# Altium footprint library B3U.PcbLib: 4 footprints
Each footprint in its own frame and in the unit in brackets; x right, y up, seen from the top. Pads: shape width x height; smd on the part's side, far side on the other; paste and mask are expansions set on the pad; w line width, h text height; cw(c..) or ccw(c..) is an arc to the next point about the centre after c.
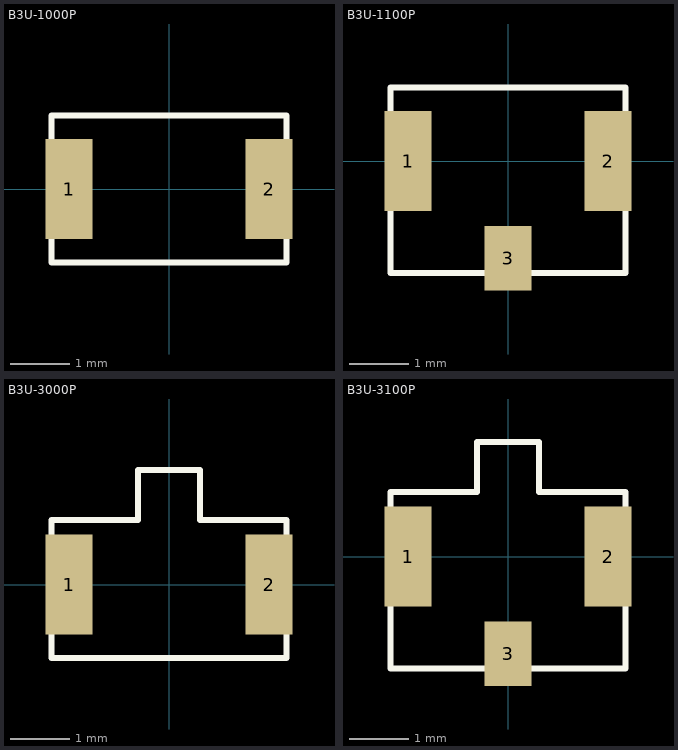
[diagram p0: the footprints below, top view; thin cyan lines are the x and y axes]

## B3U-1000P [mm] "Vertical No earth, No boss"
pads (2):
  rect 0.8x1.7 smd: 1(-1.7,0) 2(1.7,0)
Top Overlay:
  lines w0.1: -2,-1.25 2,-1.25 2,1.25 -2,1.25 -2,-1.25
3D body "B3U_1000P[].step": height 1.6, standoff 0, extent -2,-1.25 2,1.25

## B3U-1100P [mm] "Vertical With earth, No boss"
pads (3):
  rect 0.8x1.7 smd: 1(-1.7,0) 2(1.7,0)
  rect 0.8x1.1 smd: 3(0,-1.65)
Top Overlay:
  lines w0.1: -2,-1.9 -2,1.25 2,1.25 2,-1.9 -2,-1.9
3D body "B3U_1100P[].step": height 1.6, standoff 0, extent -2,-1.9 2,1.25

## B3U-3000P [mm] "Horizontal No earth, No boss"
pads (2):
  rect 0.8x1.7 smd: 1(-1.7,0) 2(1.7,0)
Top Overlay:
  lines w0.1: -0.525,1.925 -0.525,1.713 -0.525,1.287 -0.525,1.1 -2,1.1 -2,-1.25 2,-1.25 2,1.1 0.525,1.1 0.525,1.95 -0.525,1.95
3D body "B3U_3000P[].step": height 1.2, standoff 0, extent -2,-1.25 2,1.95

## B3U-3100P [mm] "Horizontal With earth, No boss"
pads (3):
  rect 0.8x1.7 smd: 1(-1.7,0) 2(1.7,0)
  rect 0.8x1.1 smd: 3(0,-1.65)
Top Overlay:
  lines w0.1: -0.525,1.925 -0.525,1.713 -0.525,1.287 -0.525,1.1 -2,1.1 -2,-1.9 2,-1.9 2,1.1 0.525,1.1 0.525,1.95 -0.525,1.95
3D body "B3U_3100P[].step": height 1.2, standoff 0, extent -2,-1.9 2,1.95